# Altium footprint library PcbLib1.PcbLib: 2 footprints
Each footprint in its own frame and in the unit in brackets; x right, y up, seen from the top. Pads: shape width x height; smd on the part's side, far side on the other; paste and mask are expansions set on the pad; w line width, h text height; cw(c..) or ccw(c..) is an arc to the next point about the centre after c.
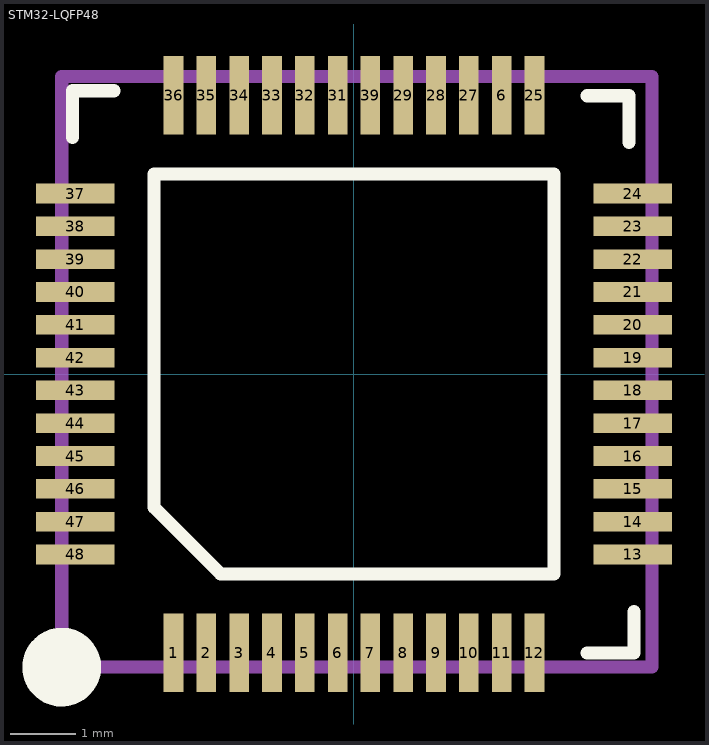
[diagram p0: the footprints below, top view; thin cyan lines are the x and y axes]

## RES_0603 [mm]

## STM32-LQFP48 [mm]
pads (48):
  rect 0.3x1.2 smd paste+0 mask+0.05: 1(-2.75,-4.25) 2(-2.25,-4.25) 3(-1.75,-4.25) 4(-1.25,-4.25) 5(-0.75,-4.25) 6(-0.25,-4.25) 6(2.25,4.25) 7(0.25,-4.25) 8(0.75,-4.25) 9(1.25,-4.25) 10(1.75,-4.25) 11(2.25,-4.25) 12(2.75,-4.25) 25(2.75,4.25) 27(1.75,4.25) 28(1.25,4.25) 29(0.75,4.25) 31(-0.25,4.25) 32(-0.75,4.25) 33(-1.25,4.25) 34(-1.75,4.25) 35(-2.25,4.25) 36(-2.75,4.25) 39(0.25,4.25)
  rect 1.2x0.3 smd paste+0 mask+0.05: 13(4.25,-2.75) 14(4.25,-2.25) 15(4.25,-1.75) 16(4.25,-1.25) 17(4.25,-0.75) 18(4.25,-0.25) 19(4.25,0.25) 20(4.25,0.75) 21(4.25,1.25) 22(4.25,1.75) 23(4.25,2.25) 24(4.25,2.75) 37(-4.25,2.75) 38(-4.25,2.25) 39(-4.25,1.75) 40(-4.25,1.25) 41(-4.25,0.75) 42(-4.25,0.25) 43(-4.25,-0.25) 44(-4.25,-0.75) 45(-4.25,-1.25) 46(-4.25,-1.75) 47(-4.25,-2.25) 48(-4.25,-2.75)
Top Overlay:
  circle w0.6: c-4.455,-4.468 r0.3
  lines w0.2: -4.293,3.607 -4.293,4.318 -3.658,4.318 ; -3.048,3.048 -3.048,-2.032 -2.032,-3.048 3.048,-3.048 3.048,3.048 -3.023,3.048 ; 3.556,-4.255 4.267,-4.255 4.267,-3.619 ; 3.556,4.242 4.191,4.242 4.191,3.531
Mechanical 1:
  lines w0.2: -4.455,-4.468 4.545,-4.468 4.545,4.532 -4.455,4.532 -4.455,-4.468
3D body "STM32-LQFP48.SLDPRT": height 1.5, standoff 0, extent -4.455,-4.468 4.545,4.532